# Altium schematic symbol library MCSchLib.SchLib: 1 symbol
Pins are listed as number, name and electrical type; pins without a type are passive.

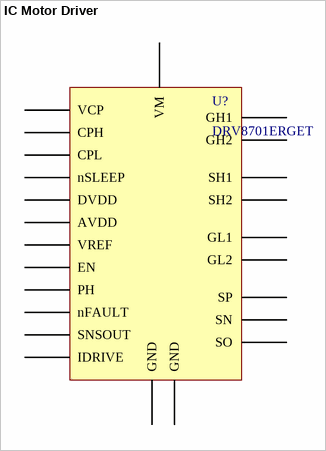
[diagram p0: symbol IC Motor Driver]

## IC Motor Driver
designator U?, comment DRV8701ERGET
Manufacturer: Texas Instruments; Description: IC MOTOR GATE DVR DC 24VQFN; Interface: Parallel; Supplier 1: Digi-Key; Manufacturer Part Number: DRV8701ERGET; Stock 1: 17098; Pricing 1: 1=2.83, 10=2.541, 100=2.0425 (USD); Mount: Surface Mount; Case/Package: VQFN; Min Operating Temperature: -40°C; Max Operating Temperature: 125°C; Packaging: Tape and Reel; Lead Free: Lead Free; Supplier Part Number 1: 296-42155-1-ND
pins: 1 VCP, 2 CPH, 3 CPL, 4 nSLEEP, 5 DVDD, 6 AVDD, 7 VREF, 8 EN, 9 PH, 10 nFAULT, 11 SNSOUT, 12 IDRIVE, 13 GND, 14 GND, 15 GH1, 16 GH2, 17 SH1, 18 SH2, 19 GL1, 20 GL2, 21 SP, 22 SN, 23 SO, 24 VM